# Altium schematic symbol library Switches.SchLib: 3 symbols
Pins are listed as number, name and electrical type; pins without a type are passive.

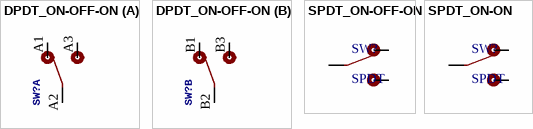
[diagram p0: symbols DPDT_ON-OFF-ON to SPDT_ON-ON]

## DPDT_ON-OFF-ON
designator SW?, comment DPDT  (value not drawn)
DPDT toggle switch ON/OFF/ON; Price: 0.5
footprint DPDT
part A pins: A1 1, A2 2, A3 3
part B pins: B1 1, B2 2, B3 3

## SPDT_ON-OFF-ON
designator SW?, comment SPDT
SPDT toggle switch ON/OFF/ON; Price: 0.5
footprint SPDT
pins: 1 O, 2 P, 3 S

## SPDT_ON-ON
designator SW?, comment SPDT
SPDT toggle switch ON/ON; Price: 0.5
footprint SPDT
pins: 1 O, 2 P, 3 S